# Altium schematic symbol library Antenas.SchLib: 2 symbols
Pins are listed as number, name and electrical type; pins without a type are passive.

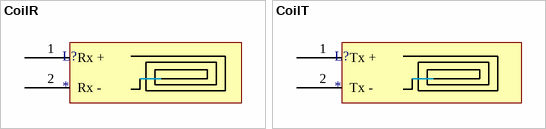
[diagram p0: symbols CoilR to CoilT]

## CoilR
designator L?  (net tie, no BOM)
Antena EEPROM
footprint COILR (Simulado 1.07uH)
pins: 1 Rx +, 2 Rx -

## CoilT
designator L?  (net tie, no BOM)
Antena Lector/Transmisor
pins: 1 Tx +, 2 Tx -